# Altium schematic symbol library Beacon_Receive.SchLib: 26 symbols
Pins are listed as number, name and electrical type; pins without a type are passive.

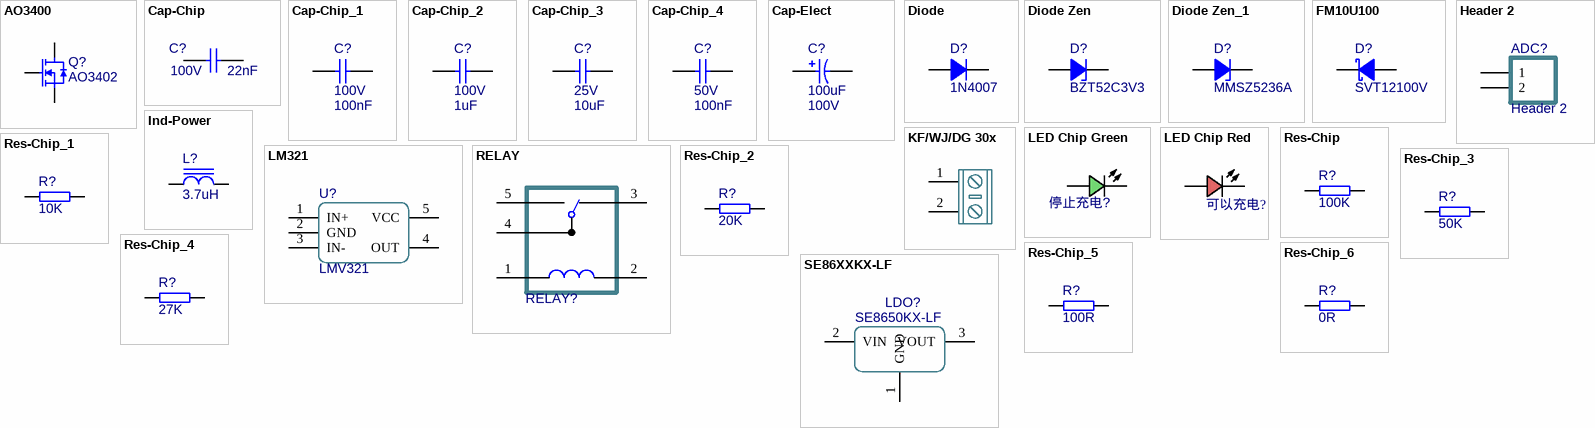
[diagram p0: symbols AO3400 to SE86XXKX-LF]

## AO3400
designator Q?, comment AO3402
N-Channel SOT-23 MOSFET
footprint SOT-23 (SOT23, 3-Leads, Body 2.90x2.40mm, Pitch 0.95mm, IPC Medium Density)
pins: 1 G, 2 S, 3 D

## Cap-Chip
designator C?, comment value 22nF  Voltage: 100V  (hidden comment: 22nF ±10% 100V)
贴片电容; Published: 2020-12-18; Revision: V1.1; Tolerance: ±10%
footprint CAPC1310[0504]S (Chip Capacitor, 2-Leads, Body 1.17x1.02mm, IPC Medium Density)
footprint CAPC3216[1206]S (Chip Capacitor, Silkscreen Border,2-Leads, Body 3.20x1.60mm, IPC Medium Density)
footprint CAPC3225[1210]S (Chip Capacitor,Silkscreen Border, 2-Leads, Body 3.20x2.50mm, IPC Medium Density)
footprint CAPC4532[1812]S (Chip Capacitor, Silkscreen Border,2-Leads, Body 4.50x3.20mm, IPC Medium Density)
footprint CAPC4564[1825]S (Chip Capacitor,Silkscreen Border, 2-Leads, Body 4.50x6.40mm, IPC Medium Density)
footprint CAPC2012[0805] (Chip Capacitor, 2-Leads, Body 2.00x1.25mm, IPC Medium Density)
footprint CAPC3216[1206] (Chip Capacitor, 2-Leads, Body 3.20x1.60mm, IPC Medium Density)
footprint CAPC3225[1210] (Chip Capacitor, 2-Leads, Body 3.20x2.50mm, IPC Medium Density)
footprint CAPC4532[1812] (Chip Capacitor, 2-Leads, Body 4.50x3.20mm, IPC Medium Density)
footprint CAPC4564[1825] (Chip Capacitor, 2-Leads, Body 4.50x6.40mm, IPC Medium Density)
footprint CAPC1608[0603]-N (Chip Capacitor, 2-Leads, Body 1.60x0.80mm, IPC Medium Density)
footprint CAPC1608[0603]-L (Chip Capacitor, 2-Leads, Body 1.60x0.80mm, IPC Medium Density)
footprint CAPC1608[0603]-M (Chip Capacitor, 2-Leads, Body 1.60x0.80mm, IPC Maximum Density)
footprint CAPC1608[0603]S-L (Chip Capacitor,Silkscreen Border,2-Leads, Body 1.60x0.80mm, IPC Minimum Density)
footprint CAPC1608[0603]S-M (Chip Capacitor,Silkscreen Border,2-Leads, Body 1.60x0.80mm, IPC Maximum Density)
footprint CAPC1608[0603]S-N (Chip Capacitor,Silkscreen Border,2-Leads, Body 1.60x0.80mm, IPC Medium Density)
footprint CAPC1005[0402]-L (Chip Capacitor,Silkscreen border, 2-Leads, Body 1.00x0.50mm, IPC Medium Density)
footprint CAPC1005[0402]-M (Chip Capacitor,Silkscreen border, 2-Leads, Body 1.00x0.50mm, IPC Medium Density)
footprint CAPC1005[0402]-N (Chip Capacitor,Silkscreen border, 2-Leads, Body 1.00x0.50mm, IPC Medium Density)
footprint CAPC1005[0402]S-L (Chip Capacitor,Silkscreen border, 2-Leads, Body 1.00x0.50mm, IPC Medium Density)
footprint CAPC1005[0402]S-M (Chip Capacitor,Silkscreen border, 2-Leads, Body 1.00x0.50mm, IPC Medium Density)
footprint CAPC1005[0402]S-N (Chip Capacitor,Silkscreen border, 2-Leads, Body 1.00x0.50mm, IPC Medium Density)
footprint CAPC2012[0805]S-L (Chip Capacitor,Silkscreen Border, 2-Leads, Body 2.00x1.25mm, IPC Maximum Density)
footprint CAPC2012[0805]S-M (Chip Capacitor,Silkscreen Border, 2-Leads, Body 2.00x1.25mm, IPC Minimum Density)
footprint CAPC2012[0805]S-N (Chip Capacitor,Silkscreen Border, 2-Leads, Body 2.00x1.25mm, IPC Medium Density)
pins: 1, 2

## Cap-Chip_1
designator C?, comment value 100nF  Voltage: 100V  (hidden comment: 100nF ±10% 100V)
贴片电容; Published: 2020-12-18; Revision: V1.1; Tolerance: ±10%
footprint CAPC1310[0504]S (Chip Capacitor, 2-Leads, Body 1.17x1.02mm, IPC Medium Density)
footprint CAPC3216[1206]S (Chip Capacitor, Silkscreen Border,2-Leads, Body 3.20x1.60mm, IPC Medium Density)
footprint CAPC3225[1210]S (Chip Capacitor,Silkscreen Border, 2-Leads, Body 3.20x2.50mm, IPC Medium Density)
footprint CAPC4532[1812]S (Chip Capacitor, Silkscreen Border,2-Leads, Body 4.50x3.20mm, IPC Medium Density)
footprint CAPC4564[1825]S (Chip Capacitor,Silkscreen Border, 2-Leads, Body 4.50x6.40mm, IPC Medium Density)
footprint CAPC2012[0805] (Chip Capacitor, 2-Leads, Body 2.00x1.25mm, IPC Medium Density)
footprint CAPC3216[1206] (Chip Capacitor, 2-Leads, Body 3.20x1.60mm, IPC Medium Density)
footprint CAPC3225[1210] (Chip Capacitor, 2-Leads, Body 3.20x2.50mm, IPC Medium Density)
footprint CAPC4532[1812] (Chip Capacitor, 2-Leads, Body 4.50x3.20mm, IPC Medium Density)
footprint CAPC4564[1825] (Chip Capacitor, 2-Leads, Body 4.50x6.40mm, IPC Medium Density)
footprint CAPC1608[0603]-N (Chip Capacitor, 2-Leads, Body 1.60x0.80mm, IPC Medium Density)
footprint CAPC1608[0603]-L (Chip Capacitor, 2-Leads, Body 1.60x0.80mm, IPC Medium Density)
footprint CAPC1608[0603]-M (Chip Capacitor, 2-Leads, Body 1.60x0.80mm, IPC Maximum Density)
footprint CAPC1608[0603]S-L (Chip Capacitor,Silkscreen Border,2-Leads, Body 1.60x0.80mm, IPC Minimum Density)
footprint CAPC1608[0603]S-M (Chip Capacitor,Silkscreen Border,2-Leads, Body 1.60x0.80mm, IPC Maximum Density)
footprint CAPC1608[0603]S-N (Chip Capacitor,Silkscreen Border,2-Leads, Body 1.60x0.80mm, IPC Medium Density)
footprint CAPC1005[0402]-L (Chip Capacitor,Silkscreen border, 2-Leads, Body 1.00x0.50mm, IPC Medium Density)
footprint CAPC1005[0402]-M (Chip Capacitor,Silkscreen border, 2-Leads, Body 1.00x0.50mm, IPC Medium Density)
footprint CAPC1005[0402]-N (Chip Capacitor,Silkscreen border, 2-Leads, Body 1.00x0.50mm, IPC Medium Density)
footprint CAPC1005[0402]S-L (Chip Capacitor,Silkscreen border, 2-Leads, Body 1.00x0.50mm, IPC Medium Density)
footprint CAPC1005[0402]S-M (Chip Capacitor,Silkscreen border, 2-Leads, Body 1.00x0.50mm, IPC Medium Density)
footprint CAPC1005[0402]S-N (Chip Capacitor,Silkscreen border, 2-Leads, Body 1.00x0.50mm, IPC Medium Density)
footprint CAPC2012[0805]S-L (Chip Capacitor,Silkscreen Border, 2-Leads, Body 2.00x1.25mm, IPC Maximum Density)
footprint CAPC2012[0805]S-M (Chip Capacitor,Silkscreen Border, 2-Leads, Body 2.00x1.25mm, IPC Minimum Density)
footprint CAPC2012[0805]S-N (Chip Capacitor,Silkscreen Border, 2-Leads, Body 2.00x1.25mm, IPC Medium Density)
pins: 1, 2

## Cap-Chip_2
designator C?, comment value 1uF  Voltage: 100V  (hidden comment: 1uF ±10% 100V)
贴片电容; Published: 2020-12-18; Revision: V1.1; Tolerance: ±10%
footprint CAPC1310[0504]S (Chip Capacitor, 2-Leads, Body 1.17x1.02mm, IPC Medium Density)
footprint CAPC3216[1206]S (Chip Capacitor, Silkscreen Border,2-Leads, Body 3.20x1.60mm, IPC Medium Density)
footprint CAPC3225[1210]S (Chip Capacitor,Silkscreen Border, 2-Leads, Body 3.20x2.50mm, IPC Medium Density)
footprint CAPC4532[1812]S (Chip Capacitor, Silkscreen Border,2-Leads, Body 4.50x3.20mm, IPC Medium Density)
footprint CAPC4564[1825]S (Chip Capacitor,Silkscreen Border, 2-Leads, Body 4.50x6.40mm, IPC Medium Density)
footprint CAPC2012[0805] (Chip Capacitor, 2-Leads, Body 2.00x1.25mm, IPC Medium Density)
footprint CAPC3216[1206] (Chip Capacitor, 2-Leads, Body 3.20x1.60mm, IPC Medium Density)
footprint CAPC3225[1210] (Chip Capacitor, 2-Leads, Body 3.20x2.50mm, IPC Medium Density)
footprint CAPC4532[1812] (Chip Capacitor, 2-Leads, Body 4.50x3.20mm, IPC Medium Density)
footprint CAPC4564[1825] (Chip Capacitor, 2-Leads, Body 4.50x6.40mm, IPC Medium Density)
footprint CAPC1608[0603]-N (Chip Capacitor, 2-Leads, Body 1.60x0.80mm, IPC Medium Density)
footprint CAPC1608[0603]-L (Chip Capacitor, 2-Leads, Body 1.60x0.80mm, IPC Medium Density)
footprint CAPC1608[0603]-M (Chip Capacitor, 2-Leads, Body 1.60x0.80mm, IPC Maximum Density)
footprint CAPC1608[0603]S-L (Chip Capacitor,Silkscreen Border,2-Leads, Body 1.60x0.80mm, IPC Minimum Density)
footprint CAPC1608[0603]S-M (Chip Capacitor,Silkscreen Border,2-Leads, Body 1.60x0.80mm, IPC Maximum Density)
footprint CAPC1608[0603]S-N (Chip Capacitor,Silkscreen Border,2-Leads, Body 1.60x0.80mm, IPC Medium Density)
footprint CAPC1005[0402]-L (Chip Capacitor,Silkscreen border, 2-Leads, Body 1.00x0.50mm, IPC Medium Density)
footprint CAPC1005[0402]-M (Chip Capacitor,Silkscreen border, 2-Leads, Body 1.00x0.50mm, IPC Medium Density)
footprint CAPC1005[0402]-N (Chip Capacitor,Silkscreen border, 2-Leads, Body 1.00x0.50mm, IPC Medium Density)
footprint CAPC1005[0402]S-L (Chip Capacitor,Silkscreen border, 2-Leads, Body 1.00x0.50mm, IPC Medium Density)
footprint CAPC1005[0402]S-M (Chip Capacitor,Silkscreen border, 2-Leads, Body 1.00x0.50mm, IPC Medium Density)
footprint CAPC1005[0402]S-N (Chip Capacitor,Silkscreen border, 2-Leads, Body 1.00x0.50mm, IPC Medium Density)
footprint CAPC2012[0805]S-L (Chip Capacitor,Silkscreen Border, 2-Leads, Body 2.00x1.25mm, IPC Maximum Density)
footprint CAPC2012[0805]S-M (Chip Capacitor,Silkscreen Border, 2-Leads, Body 2.00x1.25mm, IPC Minimum Density)
footprint CAPC2012[0805]S-N (Chip Capacitor,Silkscreen Border, 2-Leads, Body 2.00x1.25mm, IPC Medium Density)
pins: 1, 2

## Cap-Chip_3
designator C?, comment value 10uF  Voltage: 25V  (hidden comment: 10uF ±10% 25V)
贴片电容; Published: 2020-12-18; Revision: V1.1; Tolerance: ±10%
footprint CAPC1310[0504]S (Chip Capacitor, 2-Leads, Body 1.17x1.02mm, IPC Medium Density)
footprint CAPC3216[1206]S (Chip Capacitor, Silkscreen Border,2-Leads, Body 3.20x1.60mm, IPC Medium Density)
footprint CAPC3225[1210]S (Chip Capacitor,Silkscreen Border, 2-Leads, Body 3.20x2.50mm, IPC Medium Density)
footprint CAPC4532[1812]S (Chip Capacitor, Silkscreen Border,2-Leads, Body 4.50x3.20mm, IPC Medium Density)
footprint CAPC4564[1825]S (Chip Capacitor,Silkscreen Border, 2-Leads, Body 4.50x6.40mm, IPC Medium Density)
footprint CAPC2012[0805] (Chip Capacitor, 2-Leads, Body 2.00x1.25mm, IPC Medium Density)
footprint CAPC3216[1206] (Chip Capacitor, 2-Leads, Body 3.20x1.60mm, IPC Medium Density)
footprint CAPC3225[1210] (Chip Capacitor, 2-Leads, Body 3.20x2.50mm, IPC Medium Density)
footprint CAPC4532[1812] (Chip Capacitor, 2-Leads, Body 4.50x3.20mm, IPC Medium Density)
footprint CAPC4564[1825] (Chip Capacitor, 2-Leads, Body 4.50x6.40mm, IPC Medium Density)
footprint CAPC1608[0603]-N (Chip Capacitor, 2-Leads, Body 1.60x0.80mm, IPC Medium Density)
footprint CAPC1608[0603]-L (Chip Capacitor, 2-Leads, Body 1.60x0.80mm, IPC Medium Density)
footprint CAPC1608[0603]-M (Chip Capacitor, 2-Leads, Body 1.60x0.80mm, IPC Maximum Density)
footprint CAPC1608[0603]S-L (Chip Capacitor,Silkscreen Border,2-Leads, Body 1.60x0.80mm, IPC Minimum Density)
footprint CAPC1608[0603]S-M (Chip Capacitor,Silkscreen Border,2-Leads, Body 1.60x0.80mm, IPC Maximum Density)
footprint CAPC1608[0603]S-N (Chip Capacitor,Silkscreen Border,2-Leads, Body 1.60x0.80mm, IPC Medium Density)
footprint CAPC1005[0402]-L (Chip Capacitor,Silkscreen border, 2-Leads, Body 1.00x0.50mm, IPC Medium Density)
footprint CAPC1005[0402]-M (Chip Capacitor,Silkscreen border, 2-Leads, Body 1.00x0.50mm, IPC Medium Density)
footprint CAPC1005[0402]-N (Chip Capacitor,Silkscreen border, 2-Leads, Body 1.00x0.50mm, IPC Medium Density)
footprint CAPC1005[0402]S-L (Chip Capacitor,Silkscreen border, 2-Leads, Body 1.00x0.50mm, IPC Medium Density)
footprint CAPC1005[0402]S-M (Chip Capacitor,Silkscreen border, 2-Leads, Body 1.00x0.50mm, IPC Medium Density)
footprint CAPC1005[0402]S-N (Chip Capacitor,Silkscreen border, 2-Leads, Body 1.00x0.50mm, IPC Medium Density)
footprint CAPC2012[0805]S-L (Chip Capacitor,Silkscreen Border, 2-Leads, Body 2.00x1.25mm, IPC Maximum Density)
footprint CAPC2012[0805]S-M (Chip Capacitor,Silkscreen Border, 2-Leads, Body 2.00x1.25mm, IPC Minimum Density)
footprint CAPC2012[0805]S-N (Chip Capacitor,Silkscreen Border, 2-Leads, Body 2.00x1.25mm, IPC Medium Density)
pins: 1, 2

## Cap-Chip_4
designator C?, comment value 100nF  Voltage: 50V  (hidden comment: 100nF ±10% 50V)
贴片电容; Published: 2020-12-18; Revision: V1.1; Tolerance: ±10%
footprint CAPC1310[0504]S (Chip Capacitor, 2-Leads, Body 1.17x1.02mm, IPC Medium Density)
footprint CAPC3216[1206]S (Chip Capacitor, Silkscreen Border,2-Leads, Body 3.20x1.60mm, IPC Medium Density)
footprint CAPC3225[1210]S (Chip Capacitor,Silkscreen Border, 2-Leads, Body 3.20x2.50mm, IPC Medium Density)
footprint CAPC4532[1812]S (Chip Capacitor, Silkscreen Border,2-Leads, Body 4.50x3.20mm, IPC Medium Density)
footprint CAPC4564[1825]S (Chip Capacitor,Silkscreen Border, 2-Leads, Body 4.50x6.40mm, IPC Medium Density)
footprint CAPC2012[0805] (Chip Capacitor, 2-Leads, Body 2.00x1.25mm, IPC Medium Density)
footprint CAPC3216[1206] (Chip Capacitor, 2-Leads, Body 3.20x1.60mm, IPC Medium Density)
footprint CAPC3225[1210] (Chip Capacitor, 2-Leads, Body 3.20x2.50mm, IPC Medium Density)
footprint CAPC4532[1812] (Chip Capacitor, 2-Leads, Body 4.50x3.20mm, IPC Medium Density)
footprint CAPC4564[1825] (Chip Capacitor, 2-Leads, Body 4.50x6.40mm, IPC Medium Density)
footprint CAPC1608[0603]-N (Chip Capacitor, 2-Leads, Body 1.60x0.80mm, IPC Medium Density)
footprint CAPC1608[0603]-L (Chip Capacitor, 2-Leads, Body 1.60x0.80mm, IPC Medium Density)
footprint CAPC1608[0603]-M (Chip Capacitor, 2-Leads, Body 1.60x0.80mm, IPC Maximum Density)
footprint CAPC1608[0603]S-L (Chip Capacitor,Silkscreen Border,2-Leads, Body 1.60x0.80mm, IPC Minimum Density)
footprint CAPC1608[0603]S-M (Chip Capacitor,Silkscreen Border,2-Leads, Body 1.60x0.80mm, IPC Maximum Density)
footprint CAPC1608[0603]S-N (Chip Capacitor,Silkscreen Border,2-Leads, Body 1.60x0.80mm, IPC Medium Density)
footprint CAPC1005[0402]-L (Chip Capacitor,Silkscreen border, 2-Leads, Body 1.00x0.50mm, IPC Medium Density)
footprint CAPC1005[0402]-M (Chip Capacitor,Silkscreen border, 2-Leads, Body 1.00x0.50mm, IPC Medium Density)
footprint CAPC1005[0402]-N (Chip Capacitor,Silkscreen border, 2-Leads, Body 1.00x0.50mm, IPC Medium Density)
footprint CAPC1005[0402]S-L (Chip Capacitor,Silkscreen border, 2-Leads, Body 1.00x0.50mm, IPC Medium Density)
footprint CAPC1005[0402]S-M (Chip Capacitor,Silkscreen border, 2-Leads, Body 1.00x0.50mm, IPC Medium Density)
footprint CAPC1005[0402]S-N (Chip Capacitor,Silkscreen border, 2-Leads, Body 1.00x0.50mm, IPC Medium Density)
footprint CAPC2012[0805]S-L (Chip Capacitor,Silkscreen Border, 2-Leads, Body 2.00x1.25mm, IPC Maximum Density)
footprint CAPC2012[0805]S-M (Chip Capacitor,Silkscreen Border, 2-Leads, Body 2.00x1.25mm, IPC Minimum Density)
footprint CAPC2012[0805]S-N (Chip Capacitor,Silkscreen Border, 2-Leads, Body 2.00x1.25mm, IPC Medium Density)
pins: 1, 2

## Cap-Elect
designator C?, comment value 100uF  Voltage: 100V  (hidden comment: 100uF 100V)
Polarized Capacitor (Radial); Published: 8-Jun-2000; Revision: July-2002: Re-released for DXP Platform.; Publisher: Altium Limited; Price(RMB): 0.000
footprint CAPPR2-4x6.8
footprint CAPPR2-5X5
footprint CAPPR2-5X6.8
footprint CAPPR2-5X7
footprint CAPPR2-5X11
footprint CAPPR2-5X11.5
footprint CAPPR2-5X15
footprint CAPPR2.5-6.3X5
footprint CAPPR2.5-6.3X5/h.9
footprint CAPPR2.5-6.3X6.8
footprint CAPPR2.5-6.3X6.8/h.9
footprint CAPPR2.5-6.3X7
footprint CAPPR2.5-6.3X11
footprint CAPPR2.5-6.3X11.5
footprint CAPPR2.5-6.3X15
footprint CAPPR2.5-6.3x9.8
footprint CAPPR2.5-8X9.8
footprint CAPPR2.5-8X11
footprint CAPPR2.5-8x5
footprint CAPPR3.05-3.81X6.35
footprint CAPPR3.5-8X5/h.9
footprint CAPPR3.5-8X10.5
footprint CAPPR3.5-8X11.5
footprint CAPPR3.5-8X12
footprint CAPPR3.5-8X15
footprint CAPPR3.5-8X20
footprint CAPPR3.5-8x5
footprint CAPPR5-8X5
footprint CAPPR5-8X11.5
footprint CAPPR5-8X12
footprint CAPPR5-8X15
footprint CAPPR5-8X20
footprint CAPPR5-10X5/H.9
footprint CAPPR5-10X10.5
footprint CAPPR5-10X12.5
footprint CAPPR5-10X16
footprint CAPPR5-10X20/H1.1
footprint CAPPR5-10X25
footprint CAPPR5-10X30
footprint CAPPR5-10x5
footprint CAPPR5-10x20
footprint CAPPR2.5-6.3X6.8-L
footprint CAPPR7.5-16X31.5
footprint CAPPR7.5-16x25
footprint CAPPR7.5-18x35.5
pins: 1, 2

## Diode
designator D?, comment 1N4007
普通二极管 Diode; Imax: 500mA; Published: 8-Jun-2000; Revision: July-2002: Re-released for DXP Platform.; Publisher: Altium Limited; Price(RMB): 0.000
footprint SMB[DO-214AA] (Molded Diode, 2-Leads, Body 5.30x3.55mm, IPC Medium Density)
footprint SMC[DO-214AB] (Molded Diode, 2-Leads, Body 7.94x5.90mm, IPC Medium Density)
footprint SMA[DO-214AC] (Molded Diode, 2-Leads, Body 5.00x2.49mm, IPC Medium Density)
footprint SOD-123-FL (SOD Diode;2.70mm W X 1.60mm L X 1.35mm H body)
footprint SOD-123-M (SOD Diode;2.70mm W X 1.60mm L X 1.35mm H body)
footprint SOD-323 (SOD Diode;1.65mm W X 1.24mm L X 1.16mm H body)
footprint SOD-523-L (SODFL Diode;1.20mm W X 0.80mm L X 0.70mm H body)
footprint SOD-523-M (SODFL Diode;1.20mm W X 0.80mm L X 0.70mm H body)
footprint SOD-123-L (SOD Diode;2.70mm W X 1.60mm L X 1.35mm H body)
pins: A, K

## Diode Zen
designator D?, comment BZT52C3V3
稳压二极管 齐纳二极管  Zener Diode; Published: 8-Jun-2000; Revision: July-2002: Re-released for DXP Platform.; Publisher: Altium Limited; Price(RMB): 0.000
footprint DIODE-0.7 (Zener Diode; 2 Leads)
footprint DIODE-0.4
footprint SOD-87[LL-41] (MELF Diode, 2-Leads, Body 5.00x2.49mm, IPC Medium Density)
footprint CD4521-1808
footprint SOD-80[LL-34] (MELF Diode, 2-Leads, Body 3.55x1.65mm, IPC Medium Density)
footprint SOD-123-FL (SOD Diode;2.70mm W X 1.60mm L X 1.35mm H body)
footprint SOD-123-L (SOD Diode;2.70mm W X 1.60mm L X 1.35mm H body)
footprint SOD-123-M (SOD Diode;2.70mm W X 1.60mm L X 1.35mm H body)
footprint SOD-323 (SOD Diode;1.65mm W X 1.24mm L X 1.16mm H body)
footprint SOD-523-L (SODFL Diode;1.20mm W X 0.80mm L X 0.70mm H body)
footprint SOD-523-M (SODFL Diode;1.20mm W X 0.80mm L X 0.70mm H body)
pins: A, K

## Diode Zen_1
designator D?, comment MMSZ5236A
稳压二极管 齐纳二极管  Zener Diode; Published: 8-Jun-2000; Revision: July-2002: Re-released for DXP Platform.; Publisher: Altium Limited; Price(RMB): 0.000
footprint DIODE-0.7 (Zener Diode; 2 Leads)
footprint DIODE-0.4
footprint SOD-87[LL-41] (MELF Diode, 2-Leads, Body 5.00x2.49mm, IPC Medium Density)
footprint CD4521-1808
footprint SOD-80[LL-34] (MELF Diode, 2-Leads, Body 3.55x1.65mm, IPC Medium Density)
footprint SOD-123-FL (SOD Diode;2.70mm W X 1.60mm L X 1.35mm H body)
footprint SOD-123-L (SOD Diode;2.70mm W X 1.60mm L X 1.35mm H body)
footprint SOD-123-M (SOD Diode;2.70mm W X 1.60mm L X 1.35mm H body)
footprint SOD-323 (SOD Diode;1.65mm W X 1.24mm L X 1.16mm H body)
footprint SOD-523-L (SODFL Diode;1.20mm W X 0.80mm L X 0.70mm H body)
footprint SOD-523-M (SODFL Diode;1.20mm W X 0.80mm L X 0.70mm H body)
pins: A, K

## FM10U100
designator D?, comment SVT12100V
FM10U100 肖特基二极管 10A 100V; Revision: V1.0.0
footprint TO-277B
pins: 1, 2

## Header 2
designator ADC?
Header, 2-Pin; LatestRevisionDate: 17-Jul-2002; LatestRevisionNote: Re-released for DXP Platform.; Publisher: Altium Limited; Price(RMB): 0.00
footprint HDR1X2 (Connector; Header; 2 Position)
signal-integrity model Connector
footprint PH2.0-2
footprint XH2.54-2 (两针白色插座（已加焊）)
footprint GH1.25T-2P (线对板 1.25mm间距 2P 表贴连接座)
footprint XH2.54-2-L (XH2.54 卧式 两针白色插座)
footprint XH2.54-WS-2P (长：10mm，宽：8mm，高：6.1mm   淘宝ID:黄晶宝石   店铺网址:https://shop463601444.taobao.com)
pins: 1, 2

## Ind-Power
designator L?, comment 3.7uH
功率电感; Imax: 50mA; DCR: .5m; Published: 8-Jun-2000; Revision: July-2002: Re-released for DXP Platform.; Publisher: Altium Limited; Price(RMB): 0.000; Value: 3.7uH
footprint CD31
footprint CD32
footprint CD42
footprint CD43
footprint CD52
footprint CD53
footprint CD54
footprint CD73
footprint CD75
footprint CD104
footprint CD105
footprint CD106
footprint 127 Shielded 12.5*12.5*7 (12.5mmx12.5mmx7mm 屏蔽电感)
footprint 0630 TPC 7*7*3 (12mmx12mmx6.5mm 一体成型功率电感)
footprint 1050 TPC 10*10*5 (12mmx12mmx6.5mm 一体成型功率电感)
footprint 1265 TPC 12*12*6.5 (12mmx12mmx6.5mm 一体成型功率电感)
footprint CD104R
footprint SLO2520
footprint 1365 TPC 13*13*6.5 (13mmx13mmx6.5mm 一体成型功率电感)
footprint INDUCTOR (工字电感 安装板专用封装)
footprint T94-LAY
footprint T106-LAY
pins: 1, 2

## KF/WJ/DG 30x
designator 接线圈?, comment KF/WJ/DG 30x connecter  (value not drawn)
接线端子 2Pin
footprint KF/WJ/DG 301-2p-5.0mm (2P 5.08mm间距 接线端子)
pins: 1, 2

## LED Chip Green
designator 停止充电?, comment 翠绿贴片LED  (value not drawn)
Published: 8-Jun-2000; Revision: July-2002: Re-released for DXP Platform.; Publisher: Altium Limited; Price(RMB): 0.00
footprint LEDC1608(0603) (LED,Chip;1.60mm L X 0.80mm W X 0.80mm H)
footprint LEDC2012(0805) (LED,Chip;2.00mm L X 1.25mm W X 1.20mm H)
footprint LEDC3216(1206) (LED,Chip;3.20mm L X 1.60mm W X 1.30mm H)
footprint LEDC1608(0603)-L (LED,Chip;1.60mm L X 0.80mm W X 0.80mm H)
footprint LEDC2012(0805)-L (LED,Chip;2.00mm L X 1.25mm W X 1.20mm H)
footprint LEDC3216(1204) (LED,Chip;3.20mm L X 1.60mm W X 1.30mm H)
footprint LEDC3528-2 (3528 2脚 贴片LED)
pins: A, C

## LED Chip Red
designator 可以充电?, comment 红色贴片LED  (value not drawn)
Published: 8-Jun-2000; Revision: July-2002: Re-released for DXP Platform.; Publisher: Altium Limited; Price(RMB): 0.00
footprint LEDC1608(0603) (LED,Chip;1.60mm L X 0.80mm W X 0.80mm H)
footprint LEDC2012(0805) (LED,Chip;2.00mm L X 1.25mm W X 1.20mm H)
footprint LEDC3216(1206) (LED,Chip;3.20mm L X 1.60mm W X 1.30mm H)
footprint LEDC1608(0603)-L (LED,Chip;1.60mm L X 0.80mm W X 0.80mm H)
footprint LEDC2012(0805)-L (LED,Chip;2.00mm L X 1.25mm W X 1.20mm H)
footprint LEDC3216(1204) (LED,Chip;3.20mm L X 1.60mm W X 1.30mm H)
footprint LEDC3528-2 (3528 2脚 贴片LED)
pins: A, C

## LM321
designator U?, comment LMV321
LM321 单通道通用运放
footprint SOT-23-5 (SOT23, 5-Leads, Body 2.92x2.79mm, Pitch 0.95mm, IPC Medium Density)
pins: 1 IN+, 2 GND, 3 IN-, 4 OUT, 5 VCC

## RELAY
designator RELAY?  (value not drawn)
RELAY 继电器
footprint RELAY-19x16x16 (继电器)
footprint RELAY-15x10x12 (继电器)
pins: 1, 2, 3, 4, 5

## Res-Chip
designator R?, comment value 100K  (hidden comment: 100K ±1%)
贴片电阻; Published: 8-Jun-2000; Revision: July-2002: Re-released for DXP Platform.; Tolerance: ±1%
footprint RESC3225[1210]S (Silkscreen Outside, Chip Resistor, 2-Leads, Body 3.20x2.49mm, IPC Medium Density)
footprint RESC5025[2010]S (Silkscreen Outside, Chip Resistor, 2-Leads, Body 5.00x2.50mm, IPC Medium Density)
footprint RESC6332[2512]S (Silkscreen Outside, Chip Resistor, 2-Leads, Body 6.30x3.20mm, IPC Medium Density)
footprint RESC5025[2010] (Chip Resistor, 2-Leads, Body 5.00x2.50mm, IPC Medium Density)
footprint RESC6332[2512] (Chip Resistor, 2-Leads, Body 6.30x3.20mm, IPC Medium Density)
footprint RESC3225[1210] (Chip Resistor, 2-Leads, Body 3.20x2.49mm, IPC Medium Density)
footprint RESC3216[1206] (Chip Resistor, 2-Leads, Body 3.20x1.60mm, IPC Medium Density)
footprint RESC2012[0805] (Chip Resistor, 2-Leads, Body 2.00x1.25mm, IPC Medium Density)
footprint RESC1608[0603]-M (Chip Resistor, 2-Leads, Body 1.60x0.82mm, IPC Maximum Density)
footprint RESC1608[0603]-L (Chip Resistor, 2-Leads, Body 1.60x0.82mm, IPC Minimum Density)
footprint RESC1608[0603]-N (Chip Resistor, 2-Leads, Body 1.60x0.82mm, IPC Medium Density)
footprint RESC1608[0603]S-L (Silkscreen Outside, Chip Resistor, 2-Leads, Body 1.60x0.82mm, IPC Minimum Density)
footprint RESC1608[0603]S-M (Silkscreen Outside, Chip Resistor, 2-Leads, Body 1.60x0.82mm, IPC Maximum Density)
footprint RESC1608[0603]S-N (Silkscreen Outside, Chip Resistor, 2-Leads, Body 1.60x0.82mm, IPC Medium Density)
footprint RESC1005[0402]-L (0402贴片电阻 无丝印 2脚 1.00x0.50mm，IPC高密度)
footprint RESC1005[0402]-N (0402贴片电阻 无丝印 2脚 1.00x0.50mm，IPC中密度)
footprint RESC1005[0402]-M (0402贴片电阻 无丝印 2脚 1.00x0.50mm，IPC低密度)
footprint RESC1005[0402]S-L (0402贴片电阻 有丝印 2脚 1.00x0.50mm，IPC高密度)
footprint RESC1005[0402]S-M (0402贴片电阻 有丝印 2脚 1.00x0.50mm，IPC低密度)
footprint RESC1005[0402]S-N (0402贴片电阻 有丝印 2脚 1.00x0.50mm，IPC中等密度)
footprint RESC2012[0805]S-L (Silkscreen Outside, Chip Resistor, 2-Leads, Body 2.00x1.25mm, IPC Medium Density)
footprint RESC2012[0805]S-M (Silkscreen Outside, Chip Resistor, 2-Leads, Body 2.00x1.25mm, IPC Medium Density)
footprint RESC2012[0805]S-N (Silkscreen Outside, Chip Resistor, 2-Leads, Body 2.00x1.25mm, IPC Medium Density)
footprint RESC3216[1206]S-L (Silkscreen Outside, Chip Resistor, 2-Leads, Body 3.20x1.60mm, IPC Medium Density)
footprint RESC3216[1206]S-M (Silkscreen Outside, Chip Resistor, 2-Leads, Body 3.20x1.60mm, IPC Medium Density)
footprint RESC3216[1206]S-N (Silkscreen Outside, Chip Resistor, 2-Leads, Body 3.20x1.60mm, IPC Medium Density)
pins: 1, 2
1 alternate drawing of the same symbol

## Res-Chip_1
designator R?, comment value 10K  (hidden comment: 10K ±1%)
贴片电阻; Published: 8-Jun-2000; Revision: July-2002: Re-released for DXP Platform.; Tolerance: ±1%
footprint RESC3225[1210]S (Silkscreen Outside, Chip Resistor, 2-Leads, Body 3.20x2.49mm, IPC Medium Density)
footprint RESC5025[2010]S (Silkscreen Outside, Chip Resistor, 2-Leads, Body 5.00x2.50mm, IPC Medium Density)
footprint RESC6332[2512]S (Silkscreen Outside, Chip Resistor, 2-Leads, Body 6.30x3.20mm, IPC Medium Density)
footprint RESC5025[2010] (Chip Resistor, 2-Leads, Body 5.00x2.50mm, IPC Medium Density)
footprint RESC6332[2512] (Chip Resistor, 2-Leads, Body 6.30x3.20mm, IPC Medium Density)
footprint RESC3225[1210] (Chip Resistor, 2-Leads, Body 3.20x2.49mm, IPC Medium Density)
footprint RESC3216[1206] (Chip Resistor, 2-Leads, Body 3.20x1.60mm, IPC Medium Density)
footprint RESC2012[0805] (Chip Resistor, 2-Leads, Body 2.00x1.25mm, IPC Medium Density)
footprint RESC1608[0603]-M (Chip Resistor, 2-Leads, Body 1.60x0.82mm, IPC Maximum Density)
footprint RESC1608[0603]-L (Chip Resistor, 2-Leads, Body 1.60x0.82mm, IPC Minimum Density)
footprint RESC1608[0603]-N (Chip Resistor, 2-Leads, Body 1.60x0.82mm, IPC Medium Density)
footprint RESC1608[0603]S-L (Silkscreen Outside, Chip Resistor, 2-Leads, Body 1.60x0.82mm, IPC Minimum Density)
footprint RESC1608[0603]S-M (Silkscreen Outside, Chip Resistor, 2-Leads, Body 1.60x0.82mm, IPC Maximum Density)
footprint RESC1608[0603]S-N (Silkscreen Outside, Chip Resistor, 2-Leads, Body 1.60x0.82mm, IPC Medium Density)
footprint RESC1005[0402]-L (0402贴片电阻 无丝印 2脚 1.00x0.50mm，IPC高密度)
footprint RESC1005[0402]-N (0402贴片电阻 无丝印 2脚 1.00x0.50mm，IPC中密度)
footprint RESC1005[0402]-M (0402贴片电阻 无丝印 2脚 1.00x0.50mm，IPC低密度)
footprint RESC1005[0402]S-L (0402贴片电阻 有丝印 2脚 1.00x0.50mm，IPC高密度)
footprint RESC1005[0402]S-M (0402贴片电阻 有丝印 2脚 1.00x0.50mm，IPC低密度)
footprint RESC1005[0402]S-N (0402贴片电阻 有丝印 2脚 1.00x0.50mm，IPC中等密度)
footprint RESC2012[0805]S-L (Silkscreen Outside, Chip Resistor, 2-Leads, Body 2.00x1.25mm, IPC Medium Density)
footprint RESC2012[0805]S-M (Silkscreen Outside, Chip Resistor, 2-Leads, Body 2.00x1.25mm, IPC Medium Density)
footprint RESC2012[0805]S-N (Silkscreen Outside, Chip Resistor, 2-Leads, Body 2.00x1.25mm, IPC Medium Density)
footprint RESC3216[1206]S-L (Silkscreen Outside, Chip Resistor, 2-Leads, Body 3.20x1.60mm, IPC Medium Density)
footprint RESC3216[1206]S-M (Silkscreen Outside, Chip Resistor, 2-Leads, Body 3.20x1.60mm, IPC Medium Density)
footprint RESC3216[1206]S-N (Silkscreen Outside, Chip Resistor, 2-Leads, Body 3.20x1.60mm, IPC Medium Density)
pins: 1, 2
1 alternate drawing of the same symbol

## Res-Chip_2
designator R?, comment value 20K  (hidden comment: 20K ±1%)
贴片电阻; Published: 8-Jun-2000; Revision: July-2002: Re-released for DXP Platform.; Tolerance: ±1%
footprint RESC3225[1210]S (Silkscreen Outside, Chip Resistor, 2-Leads, Body 3.20x2.49mm, IPC Medium Density)
footprint RESC5025[2010]S (Silkscreen Outside, Chip Resistor, 2-Leads, Body 5.00x2.50mm, IPC Medium Density)
footprint RESC6332[2512]S (Silkscreen Outside, Chip Resistor, 2-Leads, Body 6.30x3.20mm, IPC Medium Density)
footprint RESC5025[2010] (Chip Resistor, 2-Leads, Body 5.00x2.50mm, IPC Medium Density)
footprint RESC6332[2512] (Chip Resistor, 2-Leads, Body 6.30x3.20mm, IPC Medium Density)
footprint RESC3225[1210] (Chip Resistor, 2-Leads, Body 3.20x2.49mm, IPC Medium Density)
footprint RESC3216[1206] (Chip Resistor, 2-Leads, Body 3.20x1.60mm, IPC Medium Density)
footprint RESC2012[0805] (Chip Resistor, 2-Leads, Body 2.00x1.25mm, IPC Medium Density)
footprint RESC1608[0603]-M (Chip Resistor, 2-Leads, Body 1.60x0.82mm, IPC Maximum Density)
footprint RESC1608[0603]-L (Chip Resistor, 2-Leads, Body 1.60x0.82mm, IPC Minimum Density)
footprint RESC1608[0603]-N (Chip Resistor, 2-Leads, Body 1.60x0.82mm, IPC Medium Density)
footprint RESC1608[0603]S-L (Silkscreen Outside, Chip Resistor, 2-Leads, Body 1.60x0.82mm, IPC Minimum Density)
footprint RESC1608[0603]S-M (Silkscreen Outside, Chip Resistor, 2-Leads, Body 1.60x0.82mm, IPC Maximum Density)
footprint RESC1608[0603]S-N (Silkscreen Outside, Chip Resistor, 2-Leads, Body 1.60x0.82mm, IPC Medium Density)
footprint RESC1005[0402]-L (0402贴片电阻 无丝印 2脚 1.00x0.50mm，IPC高密度)
footprint RESC1005[0402]-N (0402贴片电阻 无丝印 2脚 1.00x0.50mm，IPC中密度)
footprint RESC1005[0402]-M (0402贴片电阻 无丝印 2脚 1.00x0.50mm，IPC低密度)
footprint RESC1005[0402]S-L (0402贴片电阻 有丝印 2脚 1.00x0.50mm，IPC高密度)
footprint RESC1005[0402]S-M (0402贴片电阻 有丝印 2脚 1.00x0.50mm，IPC低密度)
footprint RESC1005[0402]S-N (0402贴片电阻 有丝印 2脚 1.00x0.50mm，IPC中等密度)
footprint RESC2012[0805]S-L (Silkscreen Outside, Chip Resistor, 2-Leads, Body 2.00x1.25mm, IPC Medium Density)
footprint RESC2012[0805]S-M (Silkscreen Outside, Chip Resistor, 2-Leads, Body 2.00x1.25mm, IPC Medium Density)
footprint RESC2012[0805]S-N (Silkscreen Outside, Chip Resistor, 2-Leads, Body 2.00x1.25mm, IPC Medium Density)
footprint RESC3216[1206]S-L (Silkscreen Outside, Chip Resistor, 2-Leads, Body 3.20x1.60mm, IPC Medium Density)
footprint RESC3216[1206]S-M (Silkscreen Outside, Chip Resistor, 2-Leads, Body 3.20x1.60mm, IPC Medium Density)
footprint RESC3216[1206]S-N (Silkscreen Outside, Chip Resistor, 2-Leads, Body 3.20x1.60mm, IPC Medium Density)
pins: 1, 2
1 alternate drawing of the same symbol

## Res-Chip_3
designator R?, comment value 50K  (hidden comment: 50K ±1%)
贴片电阻; Published: 8-Jun-2000; Revision: July-2002: Re-released for DXP Platform.; Tolerance: ±1%
footprint RESC3225[1210]S (Silkscreen Outside, Chip Resistor, 2-Leads, Body 3.20x2.49mm, IPC Medium Density)
footprint RESC5025[2010]S (Silkscreen Outside, Chip Resistor, 2-Leads, Body 5.00x2.50mm, IPC Medium Density)
footprint RESC6332[2512]S (Silkscreen Outside, Chip Resistor, 2-Leads, Body 6.30x3.20mm, IPC Medium Density)
footprint RESC5025[2010] (Chip Resistor, 2-Leads, Body 5.00x2.50mm, IPC Medium Density)
footprint RESC6332[2512] (Chip Resistor, 2-Leads, Body 6.30x3.20mm, IPC Medium Density)
footprint RESC3225[1210] (Chip Resistor, 2-Leads, Body 3.20x2.49mm, IPC Medium Density)
footprint RESC3216[1206] (Chip Resistor, 2-Leads, Body 3.20x1.60mm, IPC Medium Density)
footprint RESC2012[0805] (Chip Resistor, 2-Leads, Body 2.00x1.25mm, IPC Medium Density)
footprint RESC1608[0603]-M (Chip Resistor, 2-Leads, Body 1.60x0.82mm, IPC Maximum Density)
footprint RESC1608[0603]-L (Chip Resistor, 2-Leads, Body 1.60x0.82mm, IPC Minimum Density)
footprint RESC1608[0603]-N (Chip Resistor, 2-Leads, Body 1.60x0.82mm, IPC Medium Density)
footprint RESC1608[0603]S-L (Silkscreen Outside, Chip Resistor, 2-Leads, Body 1.60x0.82mm, IPC Minimum Density)
footprint RESC1608[0603]S-M (Silkscreen Outside, Chip Resistor, 2-Leads, Body 1.60x0.82mm, IPC Maximum Density)
footprint RESC1608[0603]S-N (Silkscreen Outside, Chip Resistor, 2-Leads, Body 1.60x0.82mm, IPC Medium Density)
footprint RESC1005[0402]-L (0402贴片电阻 无丝印 2脚 1.00x0.50mm，IPC高密度)
footprint RESC1005[0402]-N (0402贴片电阻 无丝印 2脚 1.00x0.50mm，IPC中密度)
footprint RESC1005[0402]-M (0402贴片电阻 无丝印 2脚 1.00x0.50mm，IPC低密度)
footprint RESC1005[0402]S-L (0402贴片电阻 有丝印 2脚 1.00x0.50mm，IPC高密度)
footprint RESC1005[0402]S-M (0402贴片电阻 有丝印 2脚 1.00x0.50mm，IPC低密度)
footprint RESC1005[0402]S-N (0402贴片电阻 有丝印 2脚 1.00x0.50mm，IPC中等密度)
footprint RESC2012[0805]S-L (Silkscreen Outside, Chip Resistor, 2-Leads, Body 2.00x1.25mm, IPC Medium Density)
footprint RESC2012[0805]S-M (Silkscreen Outside, Chip Resistor, 2-Leads, Body 2.00x1.25mm, IPC Medium Density)
footprint RESC2012[0805]S-N (Silkscreen Outside, Chip Resistor, 2-Leads, Body 2.00x1.25mm, IPC Medium Density)
footprint RESC3216[1206]S-L (Silkscreen Outside, Chip Resistor, 2-Leads, Body 3.20x1.60mm, IPC Medium Density)
footprint RESC3216[1206]S-M (Silkscreen Outside, Chip Resistor, 2-Leads, Body 3.20x1.60mm, IPC Medium Density)
footprint RESC3216[1206]S-N (Silkscreen Outside, Chip Resistor, 2-Leads, Body 3.20x1.60mm, IPC Medium Density)
pins: 1, 2
1 alternate drawing of the same symbol

## Res-Chip_4
designator R?, comment value 27K  (hidden comment: 27K ±1%)
贴片电阻; Published: 8-Jun-2000; Revision: July-2002: Re-released for DXP Platform.; Tolerance: ±1%
footprint RESC3225[1210]S (Silkscreen Outside, Chip Resistor, 2-Leads, Body 3.20x2.49mm, IPC Medium Density)
footprint RESC5025[2010]S (Silkscreen Outside, Chip Resistor, 2-Leads, Body 5.00x2.50mm, IPC Medium Density)
footprint RESC6332[2512]S (Silkscreen Outside, Chip Resistor, 2-Leads, Body 6.30x3.20mm, IPC Medium Density)
footprint RESC5025[2010] (Chip Resistor, 2-Leads, Body 5.00x2.50mm, IPC Medium Density)
footprint RESC6332[2512] (Chip Resistor, 2-Leads, Body 6.30x3.20mm, IPC Medium Density)
footprint RESC3225[1210] (Chip Resistor, 2-Leads, Body 3.20x2.49mm, IPC Medium Density)
footprint RESC3216[1206] (Chip Resistor, 2-Leads, Body 3.20x1.60mm, IPC Medium Density)
footprint RESC2012[0805] (Chip Resistor, 2-Leads, Body 2.00x1.25mm, IPC Medium Density)
footprint RESC1608[0603]-M (Chip Resistor, 2-Leads, Body 1.60x0.82mm, IPC Maximum Density)
footprint RESC1608[0603]-L (Chip Resistor, 2-Leads, Body 1.60x0.82mm, IPC Minimum Density)
footprint RESC1608[0603]-N (Chip Resistor, 2-Leads, Body 1.60x0.82mm, IPC Medium Density)
footprint RESC1608[0603]S-L (Silkscreen Outside, Chip Resistor, 2-Leads, Body 1.60x0.82mm, IPC Minimum Density)
footprint RESC1608[0603]S-M (Silkscreen Outside, Chip Resistor, 2-Leads, Body 1.60x0.82mm, IPC Maximum Density)
footprint RESC1608[0603]S-N (Silkscreen Outside, Chip Resistor, 2-Leads, Body 1.60x0.82mm, IPC Medium Density)
footprint RESC1005[0402]-L (0402贴片电阻 无丝印 2脚 1.00x0.50mm，IPC高密度)
footprint RESC1005[0402]-N (0402贴片电阻 无丝印 2脚 1.00x0.50mm，IPC中密度)
footprint RESC1005[0402]-M (0402贴片电阻 无丝印 2脚 1.00x0.50mm，IPC低密度)
footprint RESC1005[0402]S-L (0402贴片电阻 有丝印 2脚 1.00x0.50mm，IPC高密度)
footprint RESC1005[0402]S-M (0402贴片电阻 有丝印 2脚 1.00x0.50mm，IPC低密度)
footprint RESC1005[0402]S-N (0402贴片电阻 有丝印 2脚 1.00x0.50mm，IPC中等密度)
footprint RESC2012[0805]S-L (Silkscreen Outside, Chip Resistor, 2-Leads, Body 2.00x1.25mm, IPC Medium Density)
footprint RESC2012[0805]S-M (Silkscreen Outside, Chip Resistor, 2-Leads, Body 2.00x1.25mm, IPC Medium Density)
footprint RESC2012[0805]S-N (Silkscreen Outside, Chip Resistor, 2-Leads, Body 2.00x1.25mm, IPC Medium Density)
footprint RESC3216[1206]S-L (Silkscreen Outside, Chip Resistor, 2-Leads, Body 3.20x1.60mm, IPC Medium Density)
footprint RESC3216[1206]S-M (Silkscreen Outside, Chip Resistor, 2-Leads, Body 3.20x1.60mm, IPC Medium Density)
footprint RESC3216[1206]S-N (Silkscreen Outside, Chip Resistor, 2-Leads, Body 3.20x1.60mm, IPC Medium Density)
pins: 1, 2
1 alternate drawing of the same symbol

## Res-Chip_5
designator R?, comment value 100R  (hidden comment: 100R ±1%)
贴片电阻; Published: 8-Jun-2000; Revision: July-2002: Re-released for DXP Platform.; Tolerance: ±1%
footprint RESC3225[1210]S (Silkscreen Outside, Chip Resistor, 2-Leads, Body 3.20x2.49mm, IPC Medium Density)
footprint RESC5025[2010]S (Silkscreen Outside, Chip Resistor, 2-Leads, Body 5.00x2.50mm, IPC Medium Density)
footprint RESC6332[2512]S (Silkscreen Outside, Chip Resistor, 2-Leads, Body 6.30x3.20mm, IPC Medium Density)
footprint RESC5025[2010] (Chip Resistor, 2-Leads, Body 5.00x2.50mm, IPC Medium Density)
footprint RESC6332[2512] (Chip Resistor, 2-Leads, Body 6.30x3.20mm, IPC Medium Density)
footprint RESC3225[1210] (Chip Resistor, 2-Leads, Body 3.20x2.49mm, IPC Medium Density)
footprint RESC3216[1206] (Chip Resistor, 2-Leads, Body 3.20x1.60mm, IPC Medium Density)
footprint RESC2012[0805] (Chip Resistor, 2-Leads, Body 2.00x1.25mm, IPC Medium Density)
footprint RESC1608[0603]-M (Chip Resistor, 2-Leads, Body 1.60x0.82mm, IPC Maximum Density)
footprint RESC1608[0603]-L (Chip Resistor, 2-Leads, Body 1.60x0.82mm, IPC Minimum Density)
footprint RESC1608[0603]-N (Chip Resistor, 2-Leads, Body 1.60x0.82mm, IPC Medium Density)
footprint RESC1608[0603]S-L (Silkscreen Outside, Chip Resistor, 2-Leads, Body 1.60x0.82mm, IPC Minimum Density)
footprint RESC1608[0603]S-M (Silkscreen Outside, Chip Resistor, 2-Leads, Body 1.60x0.82mm, IPC Maximum Density)
footprint RESC1608[0603]S-N (Silkscreen Outside, Chip Resistor, 2-Leads, Body 1.60x0.82mm, IPC Medium Density)
footprint RESC1005[0402]-L (0402贴片电阻 无丝印 2脚 1.00x0.50mm，IPC高密度)
footprint RESC1005[0402]-N (0402贴片电阻 无丝印 2脚 1.00x0.50mm，IPC中密度)
footprint RESC1005[0402]-M (0402贴片电阻 无丝印 2脚 1.00x0.50mm，IPC低密度)
footprint RESC1005[0402]S-L (0402贴片电阻 有丝印 2脚 1.00x0.50mm，IPC高密度)
footprint RESC1005[0402]S-M (0402贴片电阻 有丝印 2脚 1.00x0.50mm，IPC低密度)
footprint RESC1005[0402]S-N (0402贴片电阻 有丝印 2脚 1.00x0.50mm，IPC中等密度)
footprint RESC2012[0805]S-L (Silkscreen Outside, Chip Resistor, 2-Leads, Body 2.00x1.25mm, IPC Medium Density)
footprint RESC2012[0805]S-M (Silkscreen Outside, Chip Resistor, 2-Leads, Body 2.00x1.25mm, IPC Medium Density)
footprint RESC2012[0805]S-N (Silkscreen Outside, Chip Resistor, 2-Leads, Body 2.00x1.25mm, IPC Medium Density)
footprint RESC3216[1206]S-L (Silkscreen Outside, Chip Resistor, 2-Leads, Body 3.20x1.60mm, IPC Medium Density)
footprint RESC3216[1206]S-M (Silkscreen Outside, Chip Resistor, 2-Leads, Body 3.20x1.60mm, IPC Medium Density)
footprint RESC3216[1206]S-N (Silkscreen Outside, Chip Resistor, 2-Leads, Body 3.20x1.60mm, IPC Medium Density)
pins: 1, 2
1 alternate drawing of the same symbol

## Res-Chip_6
designator R?, comment value 0R  (hidden comment: 0R ±1%)
贴片电阻; Published: 8-Jun-2000; Revision: July-2002: Re-released for DXP Platform.; Tolerance: ±1%
footprint RESC3225[1210]S (Silkscreen Outside, Chip Resistor, 2-Leads, Body 3.20x2.49mm, IPC Medium Density)
footprint RESC5025[2010]S (Silkscreen Outside, Chip Resistor, 2-Leads, Body 5.00x2.50mm, IPC Medium Density)
footprint RESC6332[2512]S (Silkscreen Outside, Chip Resistor, 2-Leads, Body 6.30x3.20mm, IPC Medium Density)
footprint RESC5025[2010] (Chip Resistor, 2-Leads, Body 5.00x2.50mm, IPC Medium Density)
footprint RESC6332[2512] (Chip Resistor, 2-Leads, Body 6.30x3.20mm, IPC Medium Density)
footprint RESC3225[1210] (Chip Resistor, 2-Leads, Body 3.20x2.49mm, IPC Medium Density)
footprint RESC3216[1206] (Chip Resistor, 2-Leads, Body 3.20x1.60mm, IPC Medium Density)
footprint RESC2012[0805] (Chip Resistor, 2-Leads, Body 2.00x1.25mm, IPC Medium Density)
footprint RESC1608[0603]-M (Chip Resistor, 2-Leads, Body 1.60x0.82mm, IPC Maximum Density)
footprint RESC1608[0603]-L (Chip Resistor, 2-Leads, Body 1.60x0.82mm, IPC Minimum Density)
footprint RESC1608[0603]-N (Chip Resistor, 2-Leads, Body 1.60x0.82mm, IPC Medium Density)
footprint RESC1608[0603]S-L (Silkscreen Outside, Chip Resistor, 2-Leads, Body 1.60x0.82mm, IPC Minimum Density)
footprint RESC1608[0603]S-M (Silkscreen Outside, Chip Resistor, 2-Leads, Body 1.60x0.82mm, IPC Maximum Density)
footprint RESC1608[0603]S-N (Silkscreen Outside, Chip Resistor, 2-Leads, Body 1.60x0.82mm, IPC Medium Density)
footprint RESC1005[0402]-L (0402贴片电阻 无丝印 2脚 1.00x0.50mm，IPC高密度)
footprint RESC1005[0402]-N (0402贴片电阻 无丝印 2脚 1.00x0.50mm，IPC中密度)
footprint RESC1005[0402]-M (0402贴片电阻 无丝印 2脚 1.00x0.50mm，IPC低密度)
footprint RESC1005[0402]S-L (0402贴片电阻 有丝印 2脚 1.00x0.50mm，IPC高密度)
footprint RESC1005[0402]S-M (0402贴片电阻 有丝印 2脚 1.00x0.50mm，IPC低密度)
footprint RESC1005[0402]S-N (0402贴片电阻 有丝印 2脚 1.00x0.50mm，IPC中等密度)
footprint RESC2012[0805]S-L (Silkscreen Outside, Chip Resistor, 2-Leads, Body 2.00x1.25mm, IPC Medium Density)
footprint RESC2012[0805]S-M (Silkscreen Outside, Chip Resistor, 2-Leads, Body 2.00x1.25mm, IPC Medium Density)
footprint RESC2012[0805]S-N (Silkscreen Outside, Chip Resistor, 2-Leads, Body 2.00x1.25mm, IPC Medium Density)
footprint RESC3216[1206]S-L (Silkscreen Outside, Chip Resistor, 2-Leads, Body 3.20x1.60mm, IPC Medium Density)
footprint RESC3216[1206]S-M (Silkscreen Outside, Chip Resistor, 2-Leads, Body 3.20x1.60mm, IPC Medium Density)
footprint RESC3216[1206]S-N (Silkscreen Outside, Chip Resistor, 2-Leads, Body 3.20x1.60mm, IPC Medium Density)
pins: 1, 2
1 alternate drawing of the same symbol

## SE86XXKX-LF
designator LDO?, comment SE8650KX-LF
SE86XX 线性稳压器
footprint SOT-89[T0243AA][SC62] (SOT89, T0243AA,SC62,3-Leads, Body 4.5x2.4 mm, Pitch 1.5mm, Lead Span 4.1mm, IPC Low Density)
pins: 1 GND, 2 VIN, 3 VOUT